# Altium schematic symbol library WS-TASV.SchLib: 67 symbols
Pins are listed as number, name and electrical type; pins without a type are passive.

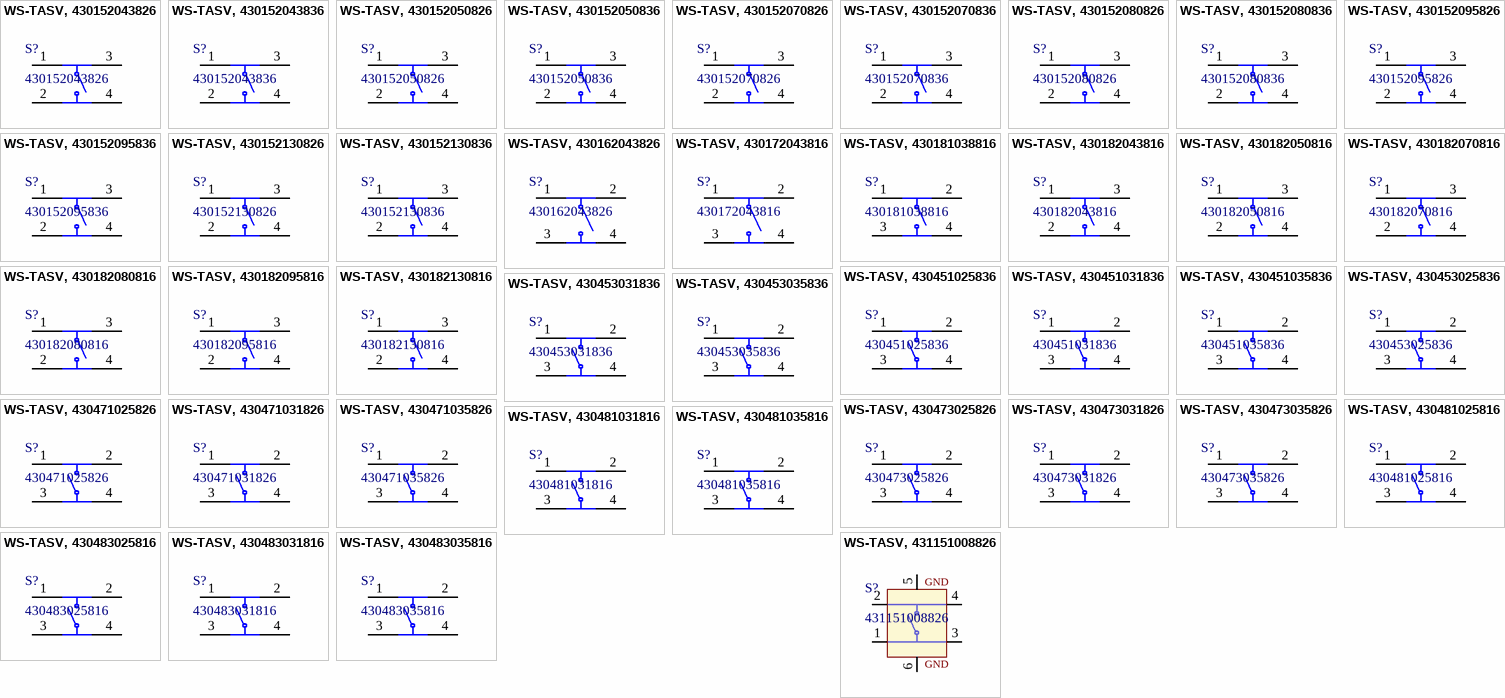
[diagram p0: symbols WS-TASV, 430152043826 to WS-TASV, 431151008826]

## WS-TASV, 430152043826
designator S?, comment 430152043826
WS-TASV 6x6 mm SMD; Manufacturer: Wurth Elektronik; partNo: 430152043826; ComponentLink1Description: Manufacturer; ComponentLink1URL: http://www.we-online.de; Created by: Baojun Chen; Created Date: Dec.2015; ComponentLink2Description: Datasheet; ComponentLink2URL: http://katalog.we-online.de/em/datasheet/4301x2xxx8x6.pdf
footprint 4301x20438x6 (6*6mm vertical type, SMD, height 4.3mm, black actuator, 160gf, T&R)
pins: 1, 2, 3, 4

## WS-TASV, 430152043836
designator S?, comment 430152043836
WS-TASV 6x6 mm SMD; Manufacturer: Wurth Elektronik; partNo: 430152043836; ComponentLink1Description: Manufacturer; ComponentLink1URL: http://www.we-online.de; Created by: Baojun Chen; Created Date: Dec.2015; ComponentLink2Description: Datasheet; ComponentLink2URL: http://katalog.we-online.de/em/datasheet/4301x2xxx8x6.pdf
footprint 4301x20438x6 (6*6mm vertical type, SMD, height 4.3mm, black actuator, 160gf, T&R)
pins: 1, 2, 3, 4

## WS-TASV, 430152050826
designator S?, comment 430152050826
WS-TASV 6x6 mm SMD; Manufacturer: Wurth Elektronik; partNo: 430152050826; ComponentLink1Description: Manufacturer; ComponentLink1URL: http://www.we-online.de; Created by: Baojun Chen; Created Date: Dec.2015; ComponentLink2Description: Datasheet; ComponentLink2URL: http://katalog.we-online.de/em/datasheet/4301x2xxx8x6.pdf
footprint 4301x20508x6 (6*6mm vertical type, SMD, height 5.0mm, black actuator, 160gf, T&R)
pins: 1, 2, 3, 4

## WS-TASV, 430152050836
designator S?, comment 430152050836
WS-TASV 6x6 mm SMD; Manufacturer: Wurth Elektronik; partNo: 430152050836; ComponentLink1Description: Manufacturer; ComponentLink1URL: http://www.we-online.de; Created by: Baojun Chen; Created Date: Dec.2015; ComponentLink2Description: Datasheet; ComponentLink2URL: http://katalog.we-online.de/em/datasheet/4301x2xxx8x6.pdf
footprint 4301x20508x6 (6*6mm vertical type, SMD, height 5.0mm, black actuator, 160gf, T&R)
pins: 1, 2, 3, 4

## WS-TASV, 430152070826
designator S?, comment 430152070826
WS-TASV 6x6 mm SMD; Manufacturer: Wurth Elektronik; partNo: 430152070826; ComponentLink1Description: Manufacturer; ComponentLink1URL: http://www.we-online.de; Created by: Baojun Chen; Created Date: Dec.2015; ComponentLink2Description: Datasheet; ComponentLink2URL: http://katalog.we-online.de/em/datasheet/4301x2xxx8x6.pdf
footprint 4301x20708x6 (6*6mm vertical type, SMD, height 7.0mm, white actuator, 260gf, T&R)
pins: 1, 2, 3, 4

## WS-TASV, 430152070836
designator S?, comment 430152070836
WS-TASV 6x6 mm SMD; Manufacturer: Wurth Elektronik; partNo: 430152070836; ComponentLink1Description: Manufacturer; ComponentLink1URL: http://www.we-online.de; Created by: Baojun Chen; Created Date: Dec.2015; ComponentLink2Description: Datasheet; ComponentLink2URL: http://katalog.we-online.de/em/datasheet/4301x2xxx8x6.pdf
footprint 4301x20708x6 (6*6mm vertical type, SMD, height 7.0mm, white actuator, 260gf, T&R)
pins: 1, 2, 3, 4

## WS-TASV, 430152080826
designator S?, comment 430152080826
WS-TASV 6x6 mm SMD; Manufacturer: Wurth Elektronik; partNo: 430152080826; ComponentLink1Description: Manufacturer; ComponentLink1URL: http://www.we-online.de; Created by: Baojun Chen; Created Date: Dec.2015; ComponentLink2Description: Datasheet; ComponentLink2URL: http://katalog.we-online.de/em/datasheet/4301x2xxx8x6.pdf
footprint 4301x20808x6 (6*6mm vertical type, SMD, height 8.0mm, white actuator, 260gf, T&R)
pins: 1, 2, 3, 4

## WS-TASV, 430152080836
designator S?, comment 430152080836
WS-TASV 6x6 mm SMD; Manufacturer: Wurth Elektronik; partNo: 430152080836; ComponentLink1Description: Manufacturer; ComponentLink1URL: http://www.we-online.de; Created by: Baojun Chen; Created Date: Dec.2015; ComponentLink2Description: Datasheet; ComponentLink2URL: http://katalog.we-online.de/em/datasheet/4301x2xxx8x6.pdf
footprint 4301x20808x6 (6*6mm vertical type, SMD, height 8.0mm, white actuator, 260gf, T&R)
pins: 1, 2, 3, 4

## WS-TASV, 430152095826
designator S?, comment 430152095826
WS-TASV 6x6 mm SMD; Manufacturer: Wurth Elektronik; partNo: 430152095826; ComponentLink1Description: Manufacturer; ComponentLink1URL: http://www.we-online.de; Created by: Baojun Chen; Created Date: Dec.2015; ComponentLink2Description: Datasheet; ComponentLink2URL: http://katalog.we-online.de/em/datasheet/4301x2xxx8x6.pdf
footprint 4301x20958x6 (6*6mm vertical type, SMD, height 9.5mm, black actuator, 160gf, T&R)
pins: 1, 2, 3, 4

## WS-TASV, 430152095836
designator S?, comment 430152095836
WS-TASV 6x6 mm SMD; Manufacturer: Wurth Elektronik; partNo: 430152095836; ComponentLink1Description: Manufacturer; ComponentLink1URL: http://www.we-online.de; Created by: Baojun Chen; Created Date: Dec.2015; ComponentLink2Description: Datasheet; ComponentLink2URL: http://katalog.we-online.de/em/datasheet/4301x2xxx8x6.pdf
footprint 4301x20958x6 (6*6mm vertical type, SMD, height 9.5mm, black actuator, 160gf, T&R)
pins: 1, 2, 3, 4

## WS-TASV, 430152130826
designator S?, comment 430152130826
WS-TASV 6x6 mm SMD; Manufacturer: Wurth Elektronik; partNo: 430152130826; ComponentLink1Description: Manufacturer; ComponentLink1URL: http://www.we-online.de; Created by: Baojun Chen; Created Date: Dec.2015; ComponentLink2Description: Datasheet; ComponentLink2URL: http://katalog.we-online.de/em/datasheet/4301x2xxx8x6.pdf
footprint 4301x21308x6 (6*6mm vertical type, SMD, height 13.0mm, black actuator, 160gf, T&R)
pins: 1, 2, 3, 4

## WS-TASV, 430152130836
designator S?, comment 430152130836
WS-TASV 6x6 mm SMD; Manufacturer: Wurth Elektronik; partNo: 430152130836; ComponentLink1Description: Manufacturer; ComponentLink1URL: http://www.we-online.de; Created by: Baojun Chen; Created Date: Dec.2015; ComponentLink2Description: Datasheet; ComponentLink2URL: http://katalog.we-online.de/em/datasheet/4301x2xxx8x6.pdf
footprint 4301x21308x6 (6*6mm vertical type, SMD, height 13.0mm, black actuator, 160gf, T&R)
pins: 1, 2, 3, 4

## WS-TASV, 430162043826
designator S?, comment 430162043826
12x12mm Vertical type, SMD, height 4.3mm, T&R; Manufacturer: Wurth Elektronik; partNo: 430162043826; ComponentLink1Description: Manufacturer; ComponentLink1URL: http://www.we-online.de; Created by: Baojun Chen; Created Date: March 2016; ComponentLink2Description: Datasheet
footprint 4301x20438x6_12*12 (12*12mm vertical type,SMD, height 4.3mm,  T&R)
pins: 1, 2, 3, 4

## WS-TASV, 430172043816
designator S?, comment 430172043816
12x12mm Vertical type, SMD, height 4.3mm, T&R; Manufacturer: Wurth Elektronik; partNo: 430172043816; ComponentLink1Description: Manufacturer; ComponentLink1URL: http://www.we-online.de; Created by: Baojun Chen; Created Date: March 2016; ComponentLink2Description: Datasheet
footprint 4301x20438x6_12*12 (12*12mm vertical type,SMD, height 4.3mm,  T&R)
pins: 1, 2, 3, 4

## WS-TASV, 430181038816
designator S?, comment 430181038816
WS-TASV 4.5x4.5 mm SMD; Manufacturer: Wurth Elektronik; partNo: 430181038816; ComponentLink1Description: Manufacturer; ComponentLink1URL: http://www.we-online.de; Created by: Baojun Chen; Created Date: Dec.2015; ComponentLink2Description: Datasheet; ComponentLink2URL: http://katalog.we-online.de/em/datasheet/430181038816.pdf
footprint 430181038816 (4.5*4.5mm vertical type, SMD, height 3.8mm, black actuator, 160gf, T&R)
pins: 1, 2, 3, 4

## WS-TASV, 430182043816
designator S?, comment 430182043816
WS-TASV 6x6 mm SMD; Manufacturer: Wurth Elektronik; partNo: 430182043816; ComponentLink1Description: Manufacturer; ComponentLink1URL: http://www.we-online.de; Created by: Baojun Chen; Created Date: Dec.2015; ComponentLink2Description: Datasheet; ComponentLink2URL: http://katalog.we-online.de/em/datasheet/4301x2xxx8x6.pdf
footprint 4301x20438x6 (6*6mm vertical type, SMD, height 4.3mm, black actuator, 160gf, T&R)
pins: 1, 2, 3, 4

## WS-TASV, 430182050816
designator S?, comment 430182050816
WS-TASV 6x6 mm SMD; Manufacturer: Wurth Elektronik; partNo: 430182050816; ComponentLink1Description: Manufacturer; ComponentLink1URL: http://www.we-online.de; Created by: Baojun Chen; Created Date: Dec.2015; ComponentLink2Description: Datasheet; ComponentLink2URL: http://katalog.we-online.de/em/datasheet/4301x2xxx8x6.pdf
footprint 4301x20508x6 (6*6mm vertical type, SMD, height 5.0mm, black actuator, 160gf, T&R)
pins: 1, 2, 3, 4

## WS-TASV, 430182070816
designator S?, comment 430182070816
WS-TASV 6x6 mm SMD; Manufacturer: Wurth Elektronik; partNo: 430182070816; ComponentLink1Description: Manufacturer; ComponentLink1URL: http://www.we-online.de; Created by: Baojun Chen; Created Date: Dec.2015; ComponentLink2Description: Datasheet; ComponentLink2URL: http://katalog.we-online.de/em/datasheet/4301x2xxx8x6.pdf
footprint 4301x20708x6 (6*6mm vertical type, SMD, height 7.0mm, white actuator, 260gf, T&R)
pins: 1, 2, 3, 4

## WS-TASV, 430182080816
designator S?, comment 430182080816
WS-TASV 6x6 mm SMD; Manufacturer: Wurth Elektronik; partNo: 430182080816; ComponentLink1Description: Manufacturer; ComponentLink1URL: http://www.we-online.de; Created by: Baojun Chen; Created Date: Dec.2015; ComponentLink2Description: Datasheet; ComponentLink2URL: http://katalog.we-online.de/em/datasheet/4301x2xxx8x6.pdf
footprint 4301x20808x6 (6*6mm vertical type, SMD, height 8.0mm, white actuator, 260gf, T&R)
pins: 1, 2, 3, 4

## WS-TASV, 430182095816
designator S?, comment 430182095816
WS-TASV 6x6 mm SMD; Manufacturer: Wurth Elektronik; partNo: 430182095816; ComponentLink1Description: Manufacturer; ComponentLink1URL: http://www.we-online.de; Created by: Baojun Chen; Created Date: Dec.2015; ComponentLink2Description: Datasheet; ComponentLink2URL: http://katalog.we-online.de/em/datasheet/4301x2xxx8x6.pdf
footprint 4301x20958x6 (6*6mm vertical type, SMD, height 9.5mm, black actuator, 160gf, T&R)
pins: 1, 2, 3, 4

## WS-TASV, 430182130816
designator S?, comment 430182130816
WS-TASV 6x6 mm SMD; Manufacturer: Wurth Elektronik; partNo: 430182130816; ComponentLink1Description: Manufacturer; ComponentLink1URL: http://www.we-online.de; Created by: Baojun Chen; Created Date: Dec.2015; ComponentLink2Description: Datasheet; ComponentLink2URL: http://katalog.we-online.de/em/datasheet/4301x2xxx8x6.pdf
footprint 4301x21308x6 (6*6mm vertical type, SMD, height 13.0mm, black actuator, 160gf, T&R)
pins: 1, 2, 3, 4

## WS-TASV, 430451025836
designator S?, comment 430451025836
WS-TASV 6x6 mm SMD washable; Manufacturer: Wurth Elektronik; partNo: 430451025836; ComponentLink1Description: Manufacturer; ComponentLink1URL: http://www.we-online.de; Created by: Baojun Chen; Created Date: Dec.2015; ComponentLink2Description: Datasheet; ComponentLink2URL: http://katalog.we-online.de/em/datasheet/4304x1xxx8x6.pdf
footprint 4304x10258x6 (6*6mm vertical type,SMD, height 2.5mm, black actuator, 160gf, T&R)
pins: 1, 2, 3, 4

## WS-TASV, 430451031836
designator S?, comment 430451031836
WS-TASV 6x6 mm SMD washable; Manufacturer: Wurth Elektronik; partNo: 430451031836; ComponentLink1Description: Manufacturer; ComponentLink1URL: http://www.we-online.de; Created by: Baojun Chen; Created Date: Dec.2015; ComponentLink2Description: Datasheet; ComponentLink2URL: http://katalog.we-online.de/em/datasheet/4304x1xxx8x6.pdf
footprint 4304x10318x6 (6*6mm vertical type,SMD, height 3.1mm, salmon actuator, 360gf, T&R)
pins: 1, 2, 3, 4

## WS-TASV, 430451035836
designator S?, comment 430451035836
WS-TASV 6x6 mm SMD washable; Manufacturer: Wurth Elektronik; partNo: 430451035836; ComponentLink1Description: Manufacturer; ComponentLink1URL: http://www.we-online.de; Created by: Baojun Chen; Created Date: Dec.2015; ComponentLink2Description: Datasheet; ComponentLink2URL: http://katalog.we-online.de/em/datasheet/4304x1xxx8x6.pdf
footprint 4304x10358x6 (6*6mm vertical type,SMD,  height 3.5mm, salmon actuator, 360gf, T&R)
pins: 1, 2, 3, 4

## WS-TASV, 430453025836
designator S?, comment 430453025836
WS-TASV 6x6 mm SMD J-Bend washable; Manufacturer: Wurth Elektronik; partNo: 430453025836; ComponentLink1Description: Manufacturer; ComponentLink1URL: http://www.we-online.de; Created by: Baojun Chen; Created Date: Dec.2015; ComponentLink2Description: Datasheet; ComponentLink2URL: http://katalog.we-online.de/em/datasheet/4304x3xxx8x6.pdf
footprint 4304x30258x6 (6*6mm washable vertical type, J-Bend SMD, height 2.5mm, salmon actuator, 360gf, T&R)
pins: 1, 2, 3, 4

## WS-TASV, 430453031836
designator S?, comment 430453031836
WS-TASV 6x6 mm SMD J-Bend washable; Manufacturer: Wurth Elektronik; partNo: 430453031836; ComponentLink1Description: Manufacturer; ComponentLink1URL: http://www.we-online.de; Created by: Baojun Chen; Created Date: Dec.2015; ComponentLink2Description: Datasheet; ComponentLink2URL: http://katalog.we-online.de/em/datasheet/4304x3xxx8x6.pdf
footprint 4304x30318x6 (6*6mm vertical type, J-Bend SMD, height 3.1mm, salmon actuator, 360gf, T&R)
pins: 1, 2, 3, 4

## WS-TASV, 430453035836
designator S?, comment 430453035836
WS-TASV 6x6 mm SMD J-Bend washable; Manufacturer: Wurth Elektronik; partNo: 430453035836; ComponentLink1Description: Manufacturer; ComponentLink1URL: http://www.we-online.de; Created by: Baojun Chen; Created Date: Dec.2015; ComponentLink2Description: Datasheet; ComponentLink2URL: http://katalog.we-online.de/em/datasheet/4304x3xxx8x6.pdf
footprint 4304x30358x6 (6*6mm vertical type, J-Bend SMD,  height 3.5mm, salmon actuator, 360gf, T&R)
pins: 1, 2, 3, 4

## WS-TASV, 430471025826
designator S?, comment 430471025826
WS-TASV 6x6 mm SMD washable; Manufacturer: Wurth Elektronik; partNo: 430471025826; ComponentLink1Description: Manufacturer; ComponentLink1URL: http://www.we-online.de; Created by: Baojun Chen; Created Date: Dec.2015; ComponentLink2Description: Datasheet; ComponentLink2URL: http://katalog.we-online.de/em/datasheet/4304x1xxx8x6.pdf
footprint 4304x10258x6 (6*6mm vertical type,SMD, height 2.5mm, black actuator, 160gf, T&R)
pins: 1, 2, 3, 4

## WS-TASV, 430471031826
designator S?, comment 430471031826
WS-TASV 6x6 mm SMD washable; Manufacturer: Wurth Elektronik; partNo: 430471031826; ComponentLink1Description: Manufacturer; ComponentLink1URL: http://www.we-online.de; Created by: Baojun Chen; Created Date: Dec.2015; ComponentLink2Description: Datasheet; ComponentLink2URL: http://katalog.we-online.de/em/datasheet/4304x1xxx8x6.pdf
footprint 4304x10318x6 (6*6mm vertical type,SMD, height 3.1mm, salmon actuator, 360gf, T&R)
pins: 1, 2, 3, 4

## WS-TASV, 430471035826
designator S?, comment 430471035826
WS-TASV 6x6 mm SMD washable; Manufacturer: Wurth Elektronik; partNo: 430471035826; ComponentLink1Description: Manufacturer; ComponentLink1URL: http://www.we-online.de; Created by: Baojun Chen; Created Date: Dec.2015; ComponentLink2Description: Datasheet; ComponentLink2URL: http://katalog.we-online.de/em/datasheet/4304x1xxx8x6.pdf
footprint 4304x10358x6 (6*6mm vertical type,SMD,  height 3.5mm, salmon actuator, 360gf, T&R)
pins: 1, 2, 3, 4

## WS-TASV, 430473025826
designator S?, comment 430473025826
WS-TASV 6x6 mm SMD J-Bend washable; Manufacturer: Wurth Elektronik; partNo: 430473025826; ComponentLink1Description: Manufacturer; ComponentLink1URL: http://www.we-online.de; Created by: Baojun Chen; Created Date: Dec.2015; ComponentLink2Description: Datasheet; ComponentLink2URL: http://katalog.we-online.de/em/datasheet/4304x3xxx8x6.pdf
footprint 4304x30258x6 (6*6mm washable vertical type, J-Bend SMD, height 2.5mm, salmon actuator, 360gf, T&R)
pins: 1, 2, 3, 4

## WS-TASV, 430473031826
designator S?, comment 430473031826
WS-TASV 6x6 mm SMD J-Bend washable; Manufacturer: Wurth Elektronik; partNo: 430473031826; ComponentLink1Description: Manufacturer; ComponentLink1URL: http://www.we-online.de; Created by: Baojun Chen; Created Date: Dec.2015; ComponentLink2Description: Datasheet; ComponentLink2URL: http://katalog.we-online.de/em/datasheet/4304x3xxx8x6.pdf
footprint 4304x30318x6 (6*6mm vertical type, J-Bend SMD, height 3.1mm, salmon actuator, 360gf, T&R)
pins: 1, 2, 3, 4

## WS-TASV, 430473035826
designator S?, comment 430473035826
WS-TASV 6x6 mm SMD J-Bend washable; Manufacturer: Wurth Elektronik; partNo: 430473035826; ComponentLink1Description: Manufacturer; ComponentLink1URL: http://www.we-online.de; Created by: Baojun Chen; Created Date: Dec.2015; ComponentLink2Description: Datasheet; ComponentLink2URL: http://katalog.we-online.de/em/datasheet/4304x3xxx8x6.pdf
footprint 4304x30358x6 (6*6mm vertical type, J-Bend SMD,  height 3.5mm, salmon actuator, 360gf, T&R)
pins: 1, 2, 3, 4

## WS-TASV, 430481025816
designator S?, comment 430481025816
WS-TASV 6x6 mm SMD washable; Manufacturer: Wurth Elektronik; partNo: 430481025816; ComponentLink1Description: Manufacturer; ComponentLink1URL: http://www.we-online.de; Created by: Baojun Chen; Created Date: Dec.2015; ComponentLink2Description: Datasheet; ComponentLink2URL: http://katalog.we-online.de/em/datasheet/4304x1xxx8x6.pdf
footprint 4304x10258x6 (6*6mm vertical type,SMD, height 2.5mm, black actuator, 160gf, T&R)
pins: 1, 2, 3, 4

## WS-TASV, 430481031816
designator S?, comment 430481031816
WS-TASV 6x6 mm SMD washable; Manufacturer: Wurth Elektronik; partNo: 430481031816; ComponentLink1Description: Manufacturer; ComponentLink1URL: http://www.we-online.de; Created by: Baojun Chen; Created Date: Dec.2015; ComponentLink2Description: Datasheet; ComponentLink2URL: http://katalog.we-online.de/em/datasheet/4304x1xxx8x6.pdf
footprint 4304x10318x6 (6*6mm vertical type,SMD, height 3.1mm, salmon actuator, 360gf, T&R)
pins: 1, 2, 3, 4

## WS-TASV, 430481035816
designator S?, comment 430481035816
WS-TASV 6x6 mm SMD washable; Manufacturer: Wurth Elektronik; partNo: 430481035816; ComponentLink1Description: Manufacturer; ComponentLink1URL: http://www.we-online.de; Created by: Baojun Chen; Created Date: Dec.2015; ComponentLink2Description: Datasheet; ComponentLink2URL: http://katalog.we-online.de/em/datasheet/4304x1xxx8x6.pdf
footprint 4304x10358x6 (6*6mm vertical type,SMD,  height 3.5mm, salmon actuator, 360gf, T&R)
pins: 1, 2, 3, 4

## WS-TASV, 430483025816
designator S?, comment 430483025816
WS-TASV 6x6 mm SMD J-Bend washable; Manufacturer: Wurth Elektronik; partNo: 430483025816; ComponentLink1Description: Manufacturer; ComponentLink1URL: http://www.we-online.de; Created by: Baojun Chen; Created Date: Dec.2015; ComponentLink2Description: Datasheet; ComponentLink2URL: http://katalog.we-online.de/em/datasheet/4304x3xxx8x6.pdf
footprint 4304x30258x6 (6*6mm washable vertical type, J-Bend SMD, height 2.5mm, salmon actuator, 360gf, T&R)
pins: 1, 2, 3, 4

## WS-TASV, 430483031816
designator S?, comment 430483031816
WS-TASV 6x6 mm SMD J-Bend washable; Manufacturer: Wurth Elektronik; partNo: 430483031816; ComponentLink1Description: Manufacturer; ComponentLink1URL: http://www.we-online.de; Created by: Baojun Chen; Created Date: Dec.2015; ComponentLink2Description: Datasheet; ComponentLink2URL: http://katalog.we-online.de/em/datasheet/4304x3xxx8x6.pdf
footprint 4304x30318x6 (6*6mm vertical type, J-Bend SMD, height 3.1mm, salmon actuator, 360gf, T&R)
pins: 1, 2, 3, 4

## WS-TASV, 430483035816
designator S?, comment 430483035816
WS-TASV 6x6 mm SMD J-Bend washable; Manufacturer: Wurth Elektronik; partNo: 430483035816; ComponentLink1Description: Manufacturer; ComponentLink1URL: http://www.we-online.de; Created by: Baojun Chen; Created Date: Dec.2015; ComponentLink2Description: Datasheet; ComponentLink2URL: http://katalog.we-online.de/em/datasheet/4304x3xxx8x6.pdf
footprint 4304x30358x6 (6*6mm vertical type, J-Bend SMD,  height 3.5mm, salmon actuator, 360gf, T&R)
pins: 1, 2, 3, 4

## WS-TASV, 431151008826
designator S?, comment 431151008826
WS-TASV 5x5 mm SMD with ground terminal; Manufacturer: Wurth Elektronik; partNo: 431151008826; ComponentLink1Description: Manufacturer; ComponentLink1URL: http://www.we-online.de; Created by: Baojun Chen; Created Date: Dec.2015; ComponentLink2Description: Datasheet; ComponentLink2URL: http://katalog.we-online.de/em/datasheet/4311x10088x6.pdf
footprint 4311x10088x6 (5*5mm vertical type, SMD, height 0.8mm, no actuator, 260gf, Grounded Terminal, T&R)
pins: 1, 2, 3, 4, 5 GND, 6 GND

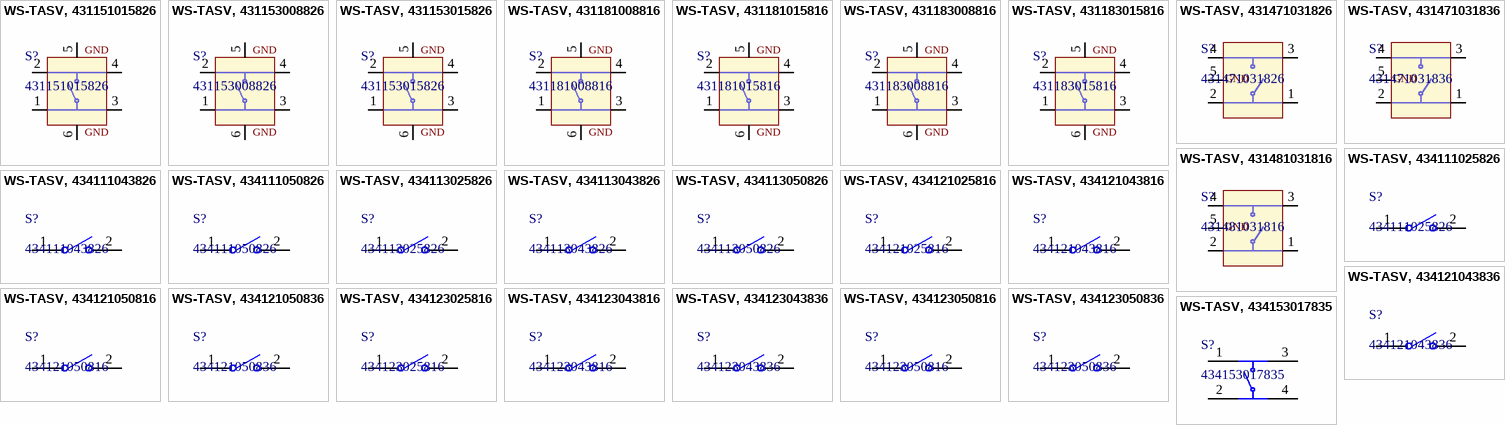
[diagram p1: symbols WS-TASV, 431151015826 to WS-TASV, 434153017835]

## WS-TASV, 431151015826
designator S?, comment 431151015826
WS-TASV 5x5 mm SMD with ground terminal; Manufacturer: Wurth Elektronik; partNo: 431151015826; ComponentLink1Description: Manufacturer; ComponentLink1URL: http://www.we-online.de; Created by: Baojun Chen; Created Date: Dec.2015; ComponentLink2Description: Datasheet; ComponentLink2URL: http://katalog.we-online.de/em/datasheet/4311x10158x6.pdf
footprint 4311x10158x6 (5*5mm vertical type, SMD, height 1.5mm, white actuator, 260gf, Grounded Terminal, T&R)
pins: 1, 2, 3, 4, 5 GND, 6 GND

## WS-TASV, 431153008826
designator S?, comment 431153008826
WS-TASV 5x5 mm J-Bend SMD with ground terminal; Manufacturer: Wurth Elektronik; partNo: 431153008826; ComponentLink1Description: Manufacturer; ComponentLink1URL: http://www.we-online.de; Created by: Baojun Chen; Created Date: Dec.2015; ComponentLink2Description: Datasheet; ComponentLink2URL: http://katalog.we-online.de/em/datasheet/4311x30088x6.pdf
footprint 4311x30088x6 (5*5mm vertical type,J-Bend SMD,  height 0.8mm, no actuator, 260gf, Grounded Terminal, T&R)
pins: 1, 2, 3, 4, 5 GND, 6 GND

## WS-TASV, 431153015826
designator S?, comment 431153015826
WS-TASV 5x5 mm J-Bend SMD with ground terminal; Manufacturer: Wurth Elektronik; partNo: 431153015826; ComponentLink1Description: Manufacturer; ComponentLink1URL: http://www.we-online.de; Created by: Baojun Chen; Created Date: Dec.2015; ComponentLink2Description: Datasheet; ComponentLink2URL: http://katalog.we-online.de/em/datasheet/4311x30158x6.pdf
footprint 4311x30158x6 (5*5mm vertical type,J-Bend SMD, height 1.5mm, black actuator, 160gf, Grounded Terminal, T&R)
pins: 1, 2, 3, 4, 5 GND, 6 GND

## WS-TASV, 431181008816
designator S?, comment 431181008816
WS-TASV 5x5 mm SMD with ground terminal; Manufacturer: Wurth Elektronik; partNo: 431181008816; ComponentLink1Description: Manufacturer; ComponentLink1URL: http://www.we-online.de; Created by: Baojun Chen; Created Date: Dec.2015; ComponentLink2Description: Datasheet; ComponentLink2URL: http://katalog.we-online.de/em/datasheet/4311x10088x6.pdf
footprint 4311x10088x6 (5*5mm vertical type, SMD, height 0.8mm, no actuator, 260gf, Grounded Terminal, T&R)
pins: 1, 2, 3, 4, 5 GND, 6 GND

## WS-TASV, 431181015816
designator S?, comment 431181015816
WS-TASV 5x5 mm SMD with ground terminal; Manufacturer: Wurth Elektronik; partNo: 431181015816; ComponentLink1Description: Manufacturer; ComponentLink1URL: http://www.we-online.de; Created by: Baojun Chen; Created Date: Dec.2015; ComponentLink2Description: Datasheet; ComponentLink2URL: http://katalog.we-online.de/em/datasheet/4311x10088x6.pdf
footprint 4311x10158x6 (5*5mm vertical type, SMD, height 1.5mm, white actuator, 260gf, Grounded Terminal, T&R)
pins: 1, 2, 3, 4, 5 GND, 6 GND

## WS-TASV, 431183008816
designator S?, comment 431183008816
WS-TASV 5x5 mm J-Bend SMD with ground terminal; Manufacturer: Wurth Elektronik; partNo: 431183008816; ComponentLink1Description: Manufacturer; ComponentLink1URL: http://www.we-online.de; Created by: Baojun Chen; Created Date: Dec.2015; ComponentLink2Description: Datasheet; ComponentLink2URL: http://katalog.we-online.de/em/datasheet/4311x30088x6.pdf
footprint 4311x30088x6 (5*5mm vertical type,J-Bend SMD,  height 0.8mm, no actuator, 260gf, Grounded Terminal, T&R)
pins: 1, 2, 3, 4, 5 GND, 6 GND

## WS-TASV, 431183015816
designator S?, comment 431183015816
WS-TASV 5x5 mm J-Bend SMD with ground terminal; Manufacturer: Wurth Elektronik; partNo: 431183015816; ComponentLink1Description: Manufacturer; ComponentLink1URL: http://www.we-online.de; Created by: Baojun Chen; Created Date: Dec.2015; ComponentLink2Description: Datasheet; ComponentLink2URL: http://katalog.we-online.de/em/datasheet/4311x30158x6.pdf
footprint 4311x30158x6 (5*5mm vertical type,J-Bend SMD, height 1.5mm, black actuator, 160gf, Grounded Terminal, T&R)
pins: 1, 2, 3, 4, 5 GND, 6 GND

## WS-TASV, 431471031826
designator S?, comment 431471031826
WS-TASV 6x6 mm SMD with ground terminal; Manufacturer: Wurth Elektronik; partNo: 431471031826; ComponentLink1Description: Manufacturer; ComponentLink1URL: http://www.we-online.de; Created by: Baojun Chen; Created Date: Dec.2015; ComponentLink2Description: Datasheet; ComponentLink2URL: http://katalog.we-online.de/em/datasheet/4314x10318x6.pdf
footprint 4314x10318x6 (6*6mm vertical type, SMD, height 3.1mm, white actuator, 260gf, Grounded Terminal, T&R)
pins: 1, 2, 3, 4, 5 GND

## WS-TASV, 431471031836
designator S?, comment 431471031836
WS-TASV 6x6 mm SMD with ground terminal; Manufacturer: Wurth Elektronik; partNo: 431471031836; ComponentLink1Description: Manufacturer; ComponentLink1URL: http://www.we-online.de; Created by: Baojun Chen; Created Date: Dec.2015; ComponentLink2Description: Datasheet; ComponentLink2URL: http://katalog.we-online.de/em/datasheet/4314x10318x6.pdf
footprint 4314x10318x6 (6*6mm vertical type, SMD, height 3.1mm, white actuator, 260gf, Grounded Terminal, T&R)
pins: 1, 2, 3, 4, 5 GND

## WS-TASV, 431481031816
designator S?, comment 431481031816
WS-TASV 6x6 mm SMD with ground terminal; Manufacturer: Wurth Elektronik; partNo: 431481031816; ComponentLink1Description: Manufacturer; ComponentLink1URL: http://www.we-online.de; Created by: Baojun Chen; Created Date: Dec.2015; ComponentLink2Description: Datasheet; ComponentLink2URL: http://katalog.we-online.de/em/datasheet/4314x10318x6.pdf
footprint 4314x10318x6 (6*6mm vertical type, SMD, height 3.1mm, white actuator, 260gf, Grounded Terminal, T&R)
pins: 1, 2, 3, 4, 5 GND

## WS-TASV, 434111025826
designator S?, comment 434111025826
WS-TASV 6.0x3.8 mm SMD; Manufacturer: Wurth Elektronik; partNo: 434111025826; ComponentLink1Description: Manufacturer; ComponentLink1URL: http://www.we-online.de; Created by: Baojun Chen; Created Date: Dec.2015; ComponentLink2Description: Datasheet; ComponentLink2URL: http://katalog.we-online.de/em/datasheet/4341x10258xx.pdf
footprint 4341x10258xx (6.0*3.8mm vertical type, SMD,  height 2.5mm, white actuator, 260gf, T&R)
pins: 1, 2

## WS-TASV, 434111043826
designator S?, comment 434111043826
WS-TASV 6.0x3.5 mm SMD; Manufacturer: Wurth Elektronik; partNo: 434111043826; ComponentLink1Description: Manufacturer; ComponentLink1URL: http://www.we-online.de; Created by: Baojun Chen; Created Date: Dec.2015; ComponentLink2Description: Datasheet; ComponentLink2URL: http://katalog.we-online.de/em/datasheet/4341x1xxx8x6.pdf
footprint 4341x10438x6 (6.0*3.5mm vertical type, SMD, height 4.3mm, white actuator, 260gf, T&R)
pins: 1, 2

## WS-TASV, 434111050826
designator S?, comment 434111050826
WS-TASV 6.0x3.5 mm SMD; Manufacturer: Wurth Elektronik; partNo: 434111050826; ComponentLink1Description: Manufacturer; ComponentLink1URL: http://www.we-online.de; Created by: Baojun Chen; Created Date: Dec.2015; ComponentLink2Description: Datasheet; ComponentLink2URL: http://katalog.we-online.de/em/datasheet/4341x1xxx8x6.pdf
footprint 4341x10508x6 (6.0*3.5mm vertical type, SMD, height 5.0mm, white actuator, 260gf, T&R)
pins: 1, 2

## WS-TASV, 434113025826
designator S?, comment 434113025826
WS-TASV 6.0x3.8 mm SMD J-Bend; Manufacturer: Wurth Elektronik; partNo: 434113025826; ComponentLink1Description: Manufacturer; ComponentLink1URL: http://www.we-online.de; Created by: Baojun Chen; Created Date: Dec.2015; ComponentLink2Description: Datasheet; ComponentLink2URL: http://katalog.we-online.de/em/datasheet/4341x30258xx.pdf
footprint 4341x30258xx (6.0*3.8mm vertical type, J-Bend SMD, height 2.5mm, white actuator, 260gf, T&R)
pins: 1, 2

## WS-TASV, 434113043826
designator S?, comment 434113043826
WS-TASV 6.0x3.5 mm SMD-J-Bend; Manufacturer: Wurth Elektronik; partNo: 434113043826; ComponentLink1Description: Manufacturer; ComponentLink1URL: http://www.we-online.de; Created by: Baojun Chen; Created Date: Dec.2015; ComponentLink2Description: Datasheet; ComponentLink2URL: http://katalog.we-online.de/em/datasheet/4341x3xxx8x6.pdf
footprint 4341x30438x6 (6.0*3.5mm vertical type, J-Bend SMD, height 4.3mm, white actuator, 260gf, T&R)
pins: 1, 2

## WS-TASV, 434113050826
designator S?, comment 434113050826
WS-TASV 6.0x3.5 mm SMD-J-Bend; Manufacturer: Wurth Elektronik; partNo: 434113050826; ComponentLink1Description: Manufacturer; ComponentLink1URL: http://www.we-online.de; Created by: Baojun Chen; Created Date: Dec.2015; ComponentLink2Description: Datasheet; ComponentLink2URL: http://katalog.we-online.de/em/datasheet/4341x3xxx8x6.pdf
footprint 4341x30508x6 (6.0*3.5mm vertical type, J-Bend SMD, height 5.0mm, white actuator, 260gf, T&R)
pins: 1, 2

## WS-TASV, 434121025816
designator S?, comment 434121025816
WS-TASV 6.0x3.8 mm SMD; Manufacturer: Wurth Elektronik; partNo: 434121025816; ComponentLink1Description: Manufacturer; ComponentLink1URL: http://www.we-online.de; Created by: Baojun Chen; Created Date: Dec.2015; ComponentLink2Description: Datasheet; ComponentLink2URL: http://katalog.we-online.de/em/datasheet/4341x10258xx.pdf
footprint 4341x10258xx (6.0*3.8mm vertical type, SMD,  height 2.5mm, white actuator, 260gf, T&R)
pins: 1, 2

## WS-TASV, 434121043816
designator S?, comment 434121043816
WS-TASV 6.0x3.5 mm SMD; Manufacturer: Wurth Elektronik; partNo: 434121043816; ComponentLink1Description: Manufacturer; ComponentLink1URL: http://www.we-online.de; Created by: Baojun Chen; Created Date: Dec.2015; ComponentLink2Description: Datasheet; ComponentLink2URL: http://katalog.we-online.de/em/datasheet/4341x1xxx8x6.pdf
footprint 4341x10438x6 (6.0*3.5mm vertical type, SMD, height 4.3mm, white actuator, 260gf, T&R)
pins: 1, 2

## WS-TASV, 434121043836
designator S?, comment 434121043836
WS-TASV 6.0x3.5 mm SMD; Manufacturer: Wurth Elektronik; partNo: 434121043836; ComponentLink1Description: Manufacturer; ComponentLink1URL: http://www.we-online.de; Created by: Baojun Chen; Created Date: Dec.2015; ComponentLink2Description: Datasheet; ComponentLink2URL: http://katalog.we-online.de/em/datasheet/4341x1xxx8x6.pdf
footprint 4341x10438x6 (6.0*3.5mm vertical type, SMD, height 4.3mm, white actuator, 260gf, T&R)
pins: 1, 2

## WS-TASV, 434121050816
designator S?, comment 434121050816
WS-TASV 6.0x3.5 mm SMD; Manufacturer: Wurth Elektronik; partNo: 434121050816; ComponentLink1Description: Manufacturer; ComponentLink1URL: http://www.we-online.de; Created by: Baojun Chen; Created Date: Dec.2015; ComponentLink2Description: Datasheet; ComponentLink2URL: http://katalog.we-online.de/em/datasheet/4341x1xxx8x6.pdf
footprint 4341x10508x6 (6.0*3.5mm vertical type, SMD, height 5.0mm, white actuator, 260gf, T&R)
pins: 1, 2

## WS-TASV, 434121050836
designator S?, comment 434121050836
WS-TASV 6.0x3.5 mm SMD; Manufacturer: Wurth Elektronik; partNo: 434121050836; ComponentLink1Description: Manufacturer; ComponentLink1URL: http://www.we-online.de; Created by: Baojun Chen; Created Date: Dec.2015; ComponentLink2Description: Datasheet; ComponentLink2URL: http://katalog.we-online.de/em/datasheet/4341x1xxx8x6.pdf
footprint 4341x10508x6 (6.0*3.5mm vertical type, SMD, height 5.0mm, white actuator, 260gf, T&R)
pins: 1, 2

## WS-TASV, 434123025816
designator S?, comment 434123025816
WS-TASV 6.0x3.8 mm SMD J-Bend; Manufacturer: Wurth Elektronik; partNo: 434123025816; ComponentLink1Description: Manufacturer; ComponentLink1URL: http://www.we-online.de; Created by: Baojun Chen; Created Date: Dec.2015; ComponentLink2Description: Datasheet; ComponentLink2URL: http://katalog.we-online.de/em/datasheet/4341x30258xx.pdf
footprint 4341x30258xx (6.0*3.8mm vertical type, J-Bend SMD, height 2.5mm, white actuator, 260gf, T&R)
pins: 1, 2

## WS-TASV, 434123043816
designator S?, comment 434123043816
WS-TASV 6.0x3.5 mm SMD-J-Bend; Manufacturer: Wurth Elektronik; partNo: 434123043816; ComponentLink1Description: Manufacturer; ComponentLink1URL: http://www.we-online.de; Created by: Baojun Chen; Created Date: Dec.2015; ComponentLink2Description: Datasheet; ComponentLink2URL: http://katalog.we-online.de/em/datasheet/4341x3xxx8x6.pdf
footprint 4341x30438x6 (6.0*3.5mm vertical type, J-Bend SMD, height 4.3mm, white actuator, 260gf, T&R)
pins: 1, 2

## WS-TASV, 434123043836
designator S?, comment 434123043836
WS-TASV 6.0x3.5 mm SMD-J-Bend; Manufacturer: Wurth Elektronik; partNo: 434123043836; ComponentLink1Description: Manufacturer; ComponentLink1URL: http://www.we-online.de; Created by: Baojun Chen; Created Date: Dec.2015; ComponentLink2Description: Datasheet; ComponentLink2URL: http://katalog.we-online.de/em/datasheet/4341x3xxx8x6.pdf
footprint 4341x30438x6 (6.0*3.5mm vertical type, J-Bend SMD, height 4.3mm, white actuator, 260gf, T&R)
pins: 1, 2

## WS-TASV, 434123050816
designator S?, comment 434123050816
WS-TASV 6.0x3.5 mm SMD-J-Bend; Manufacturer: Wurth Elektronik; partNo: 434123050816; ComponentLink1Description: Manufacturer; ComponentLink1URL: http://www.we-online.de; Created by: Baojun Chen; Created Date: Dec.2015; ComponentLink2Description: Datasheet; ComponentLink2URL: http://katalog.we-online.de/em/datasheet/4341x3xxx8x6.pdf
footprint 4341x30508x6 (6.0*3.5mm vertical type, J-Bend SMD, height 5.0mm, white actuator, 260gf, T&R)
pins: 1, 2

## WS-TASV, 434123050836
designator S?, comment 434123050836
WS-TASV 6.0x3.5 mm SMD-J-Bend; Manufacturer: Wurth Elektronik; partNo: 434123050836; ComponentLink1Description: Manufacturer; ComponentLink1URL: http://www.we-online.de; Created by: Baojun Chen; Created Date: Dec.2015; ComponentLink2Description: Datasheet; ComponentLink2URL: http://katalog.we-online.de/em/datasheet/4341x3xxx8x6.pdf
footprint 4341x30508x6 (6.0*3.5mm vertical type, J-Bend SMD, height 5.0mm, white actuator, 260gf, T&R)
pins: 1, 2

## WS-TASV, 434153017835
designator S?, comment 434153017835
WS-TASV 3.5x2.9 mm SMD J-Bend; Manufacturer: Wurth Elektronik; partNo: 434153017835; ComponentLink1Description: Manufacturer; ComponentLink1URL: http://www.we-online.de; Created by: Baojun Chen; Created Date: Dec.2015; ComponentLink2Description: Datasheet; ComponentLink2URL: http://katalog.we-online.de/em/datasheet/434153017835.pdf
footprint 434153017835 (3.5*2.9*1.7mm J-Bend SMD)
pins: 1, 2, 3, 4